# Altium footprint library PCB_proj_module_1_1.PcbLib: 60 footprints (part 4 of 4)
Each footprint in its own frame and in the unit in brackets; x right, y up, seen from the top. Pads: shape width x height; smd on the part's side, far side on the other; paste and mask are expansions set on the pad; w line width, h text height; cw(c..) or ccw(c..) is an arc to the next point about the centre after c.
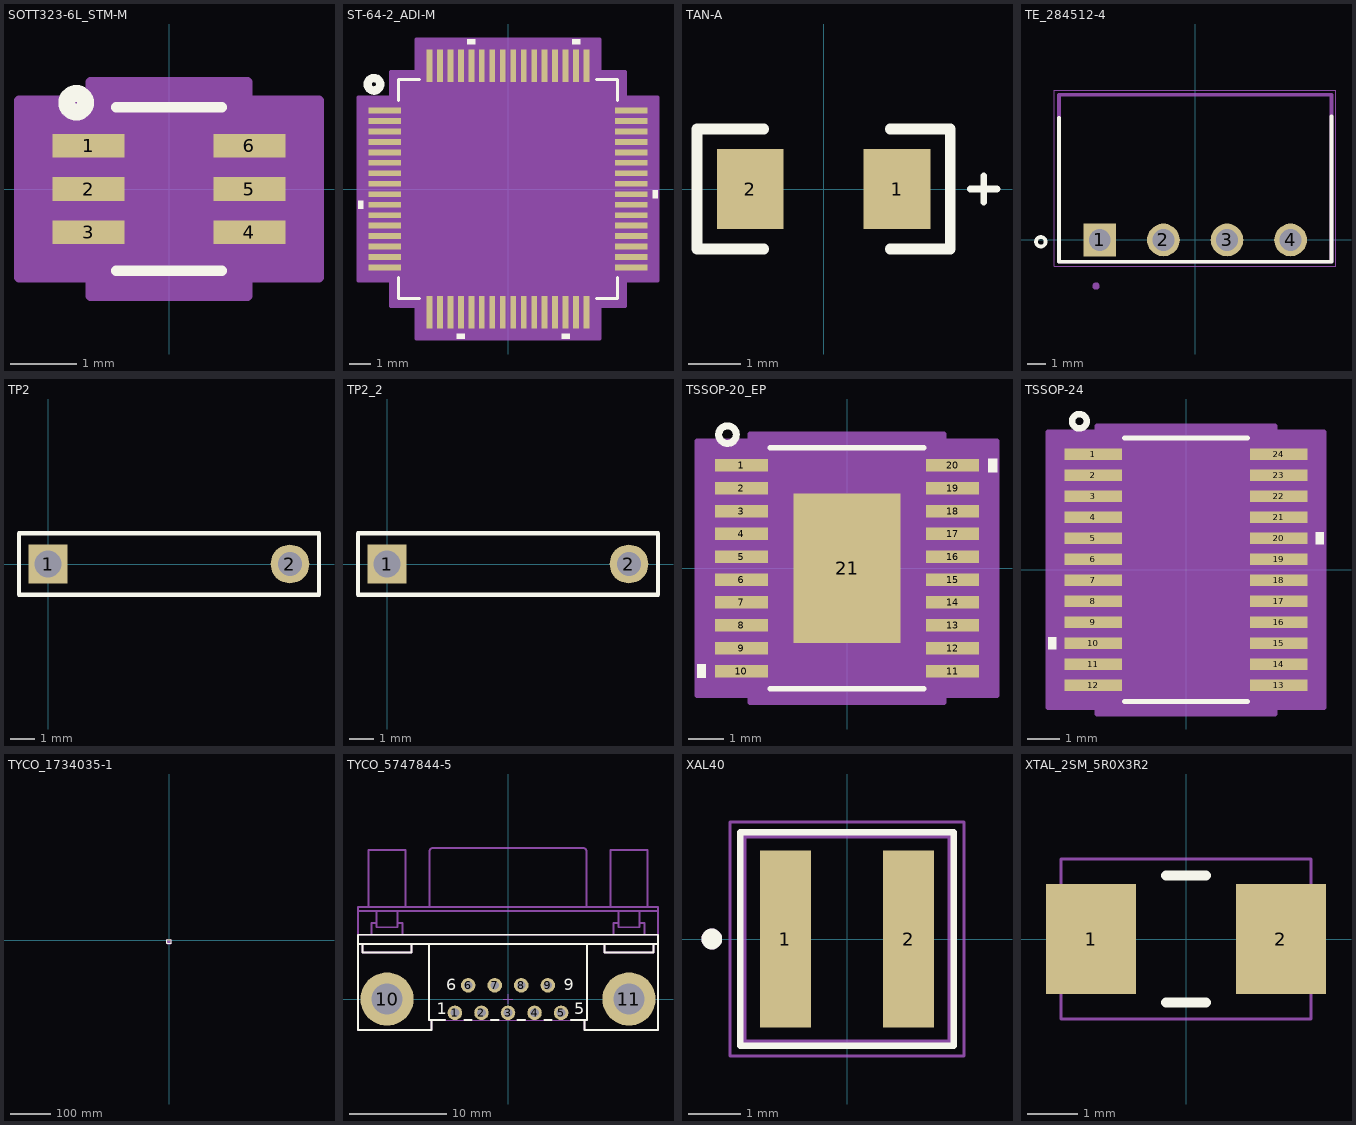
[diagram p3: the footprints below, top view; thin cyan lines are the x and y axes]

## SOTT323-6L_STM-M [mil]
height 39.37
pads (6):
  rect 42.5x14 smd paste+0 mask+0: 1(-47.75,25.59) 2(-47.75,0) 3(-47.75,-25.59) 4(47.75,-25.59) 5(47.75,0) 6(47.75,25.59)
Top Overlay:
  circle w10: c-55.12,51.18 r5.57
  lines w6: -31.5,-48.5 31.5,-48.5 ; -31.5,48.5 31.5,48.5
Mechanical 14:
  circle w7.87: c-40,45 r5
  lines w0: -12,43.5 ccw(c0,43.5) 12,43.5
  lines w1: -47,-31.59 -26.5,-31.59 -26.5,-19.59 -47,-19.59 -47,-31.59 ; -47,-6 -47,6 -26.5,6 -26.5,-6 -47,-6 ; -47,19.59 -26.5,19.59 -26.5,31.59 -47,31.59 -47,19.59 ; -26.5,-43.5 26.5,-43.5 26.5,43.5 -26.5,43.5 -26.5,-43.5 ; 26.5,-31.59 47,-31.59 47,-19.59 26.5,-19.59 26.5,-31.59 ; 26.5,-6 26.5,6 47,6 47,-6 26.5,-6 ; 26.5,19.59 47,19.59 47,31.59 26.5,31.59 26.5,19.59
Mechanical 15:
  region: -46.5,-52.59 -89,-52.59 -89,52.59 -46.5,52.59 -46.5,63.5 46.5,63.5 46.5,52.59 89,52.59 89,-52.59 46.5,-52.59 46.5,-63.5 -46.5,-63.5
  lines w6: -89,-52.59 -89,52.59 -46.5,52.59 -46.5,63.5 46.5,63.5 46.5,52.59 89,52.59 89,-52.59 46.5,-52.59 46.5,-63.5 -46.5,-63.5 -46.5,-52.59 -89,-52.59
3D body "SOTT323-6L_STM.step": height 43.11, standoff 0, extent -47,-43.5 47.01,43.51

## ST-64-2_ADI-M [mil]
height 39.37
pads (64):
  rect 61x11 smd paste+0 mask+0: 1(-231.5,147.64) 2(-231.5,127.95) 3(-231.5,108.27) 4(-231.5,88.58) 5(-231.5,68.9) 6(-231.5,49.21) 7(-231.5,29.53) 8(-231.5,9.84) 9(-231.5,-9.84) 10(-231.5,-29.53) 11(-231.5,-49.21) 12(-231.5,-68.9) 13(-231.5,-88.58) 14(-231.5,-108.27) 15(-231.5,-127.95) 16(-231.5,-147.64) 33(231.5,-147.64) 34(231.5,-127.95) 35(231.5,-108.27) 36(231.5,-88.58) 37(231.5,-68.9) 38(231.5,-49.21) 39(231.5,-29.53) 40(231.5,-9.84) 41(231.5,9.84) 42(231.5,29.53) 43(231.5,49.21) 44(231.5,68.9) 45(231.5,88.58) 46(231.5,108.27) 47(231.5,127.95) 48(231.5,147.64)
  rect 11x61 smd paste+0 mask+0: 17(-147.64,-231.5) 18(-127.95,-231.5) 19(-108.27,-231.5) 20(-88.58,-231.5) 21(-68.9,-231.5) 22(-49.21,-231.5) 23(-29.53,-231.5) 24(-9.84,-231.5) 25(9.84,-231.5) 26(29.53,-231.5) 27(49.21,-231.5) 28(68.9,-231.5) 29(88.58,-231.5) 30(108.27,-231.5) 31(127.95,-231.5) 32(147.64,-231.5) 49(147.64,231.5) 50(127.95,231.5) 51(108.27,231.5) 52(88.58,231.5) 53(68.9,231.5) 54(49.21,231.5) 55(29.53,231.5) 56(9.84,231.5) 57(-9.84,231.5) 58(-29.53,231.5) 59(-49.21,231.5) 60(-68.9,231.5) 61(-88.58,231.5) 62(-108.27,231.5) 63(-127.95,231.5) 64(-147.64,231.5)
Top Overlay:
  circle w15.75: c-251.97,196.85 r11.81
  region: -61.4,272 -76.4,272 -76.4,282 -61.4,282
  region: 135.45,272 120.45,272 120.45,282 135.45,282
  region: 272,-2.34 282,-2.34 282,-17.34 272,-17.34
  region: 115.77,-272 100.77,-272 100.77,-282 115.77,-282
  region: -81.08,-272 -96.08,-272 -96.08,-282 -81.08,-282
  region: -272,-22.03 -282,-22.03 -282,-37.03 -272,-37.03
  lines w6: -206,-166.24 -206,-206 -166.24,-206 ; -206,166.24 -206,206 -166.24,206 ; 166.24,-206 206,-206 206,-166.24 ; 166.24,206 206,206 206,166.24
Mechanical 14:
  drawing of 261 lines, arcs and shapes, not listed
  text "*" at -198.5,132.48 h50
Mechanical 15:
  region: -173.14,-221 -221,-221 -221,-173.14 -282,-173.14 -282,173.14 -221,173.14 -221,221 -173.14,221 -173.14,282 173.14,282 173.14,221 221,221 221,173.14 282,173.14 282,-173.14 221,-173.14 221,-221 173.14,-221 173.14,-282 -173.14,-282
  lines w6: -282,-173.14 -282,173.14 -221,173.14 -221,221 -173.14,221 -173.14,282 173.14,282 173.14,221 221,221 221,173.14 282,173.14 282,-173.14 221,-173.14 221,-221 173.14,-221 173.14,-282 -173.14,-282 -173.14,-221 -221,-221 -221,-173.14 -282,-173.14
3D body "ST-64-2_ADI.step": height 63.11, standoff 0, extent -240,-240 240,240

## TAN-A [mil] "TAN Capacitor"
height 39.37
pads (2):
  rect 50x60 smd: 1(55,0) 2(-55,0)
Top Overlay:
  lines w5: 110,0 130,0 ; 120,-10 120,10
  lines w8: -45,-45 -95,-45 -95,45 -45,45 ; 50,-45 95,-45 95,45 50,45
3D body: height 39.37, standoff 0, extent -47.24,-35.43 47.24,35.43

## TE_284512-4 [mm]
pads (4):
  rect 1.8x1.8 / inner round 1.8 / far side rect 1.8x1.8 hole 1.2: 1(-5.25,0)
  round 1.8 hole 1.2: 2(-1.75,0) 3(1.75,0) 4(5.25,0)
Top Overlay:
  circle w0.2: c-8.5,-0.1 r0.264
  lines w0.2: -7.5,6.731 -7.5,-1.2 7.5,-1.2 7.5,6.8
Mechanical 14:
  circle w0.2: c-5.461,-2.54 r0.1
  lines w0.2: -7.5,-1.2 7.5,-1.2 7.5,8 -7.5,8 -7.5,-1.2
Mechanical 15:
  lines w0.05: -7.75,-1.45 7.75,-1.45 7.75,8.25 -7.75,8.25 -7.75,-1.45
3D body "step_temp.STEP": height 7.25, standoff -3.4, extent -8,-1.2 8,8

## TP2 [mm]
height 9.2
pads (2):
  rect 1.6x1.6 hole 1.1: 1(0,0)
  round 1.6 hole 1: 2(10,0)
Top Overlay:
  lines w0.173: -1.2,-1.27 -1.2,1.27 11.2,1.27 11.2,-1.27 -1.2,-1.27

## TP2_2 [mm]
pads (2):
  rect 1.6x1.6 hole 1.1: 1(0,0)
  round 1.6 hole 1: 2(10,0)
Top Overlay:
  lines w0.173: -1.2,-1.27 -1.2,1.27 11.2,1.27 11.2,-1.27 -1.2,-1.27

## TSSOP-20_EP [mil]
pads (21):
  rect 59.5x14 smd paste+0 mask+0: 1(-118.25,115.16) 2(-118.25,89.57) 3(-118.25,63.98) 4(-118.25,38.39) 5(-118.25,12.8) 6(-118.25,-12.8) 7(-118.25,-38.39) 8(-118.25,-63.98) 9(-118.25,-89.57) 10(-118.25,-115.16) 11(118.25,-115.16) 12(118.25,-89.57) 13(118.25,-63.98) 14(118.25,-38.39) 15(118.25,-12.8) 16(118.25,12.8) 17(118.25,38.39) 18(118.25,63.98) 19(118.25,89.57) 20(118.25,115.16)
  rect 120x167 smd paste-83 mask+0: 21(0,0)
Top Overlay:
  circle w7.87: c-133.86,149.61 r9.84
  region: 158,122.66 168,122.66 168,107.66 158,107.66
  region: -158,-107.66 -168,-107.66 -168,-122.66 -158,-122.66
  lines w6: -85.92,-135 85.92,-135 ; -85.92,135 85.92,135
Top Paste:
  region: 56.06,-31.77 3.94,-31.77 3.94,-79.56 56.06,-79.56
  region: 56.06,23.9 3.94,23.9 3.94,-23.9 56.06,-23.9
  region: 56.06,79.56 3.94,79.56 3.94,31.77 56.06,31.77
  region: -3.94,-31.77 -56.06,-31.77 -56.06,-79.56 -3.94,-79.56
  region: -3.94,23.9 -56.06,23.9 -56.06,-23.9 -3.94,-23.9
  region: -3.94,79.56 -56.06,79.56 -56.06,31.77 -3.94,31.77
Mechanical 14:
  lines w0: -12,130 ccw(c0,130) 12,130
  lines w1: -126,-121.16 -88.5,-121.16 -88.5,-109.16 -126,-109.16 -126,-121.16 ; -126,-95.57 -88.5,-95.57 -88.5,-83.57 -126,-83.57 -126,-95.57 ; -126,-69.98 -88.5,-69.98 -88.5,-57.98 -126,-57.98 -126,-69.98 ; -126,-44.39 -88.5,-44.39 -88.5,-32.39 -126,-32.39 -126,-44.39 ; -126,-18.8 -88.5,-18.8 -88.5,-6.8 -126,-6.8 -126,-18.8 ; -126,6.8 -88.5,6.8 -88.5,18.8 -126,18.8 -126,6.8 ; -126,32.39 -88.5,32.39 -88.5,44.39 -126,44.39 -126,32.39 ; -126,57.98 -88.5,57.98 -88.5,69.98 -126,69.98 -126,57.98 ; -126,83.57 -88.5,83.57 -88.5,95.57 -126,95.57 -126,83.57 ; -126,109.16 -88.5,109.16 -88.5,121.16 -126,121.16 -126,109.16 ; -88.5,-130 -88.5,130 88.5,130 88.5,-130 -88.5,-130 ; 88.5,-121.16 126,-121.16 126,-109.16 88.5,-109.16 88.5,-121.16 ; 88.5,-95.57 126,-95.57 126,-83.57 88.5,-83.57 88.5,-95.57 ; 88.5,-69.98 126,-69.98 126,-57.98 88.5,-57.98 88.5,-69.98 ; 88.5,-44.39 126,-44.39 126,-32.39 88.5,-32.39 88.5,-44.39 ; 88.5,-18.8 126,-18.8 126,-6.8 88.5,-6.8 88.5,-18.8 ; 88.5,6.8 126,6.8 126,18.8 88.5,18.8 88.5,6.8 ; 88.5,32.39 126,32.39 126,44.39 88.5,44.39 88.5,32.39 ; 88.5,57.98 126,57.98 126,69.98 88.5,69.98 88.5,57.98 ; 88.5,83.57 126,83.57 126,95.57 88.5,95.57 88.5,83.57 ; 88.5,109.16 126,109.16 126,121.16 88.5,121.16 88.5,109.16
  text "*" at -86,77 h50
Mechanical 15:
  region: -108.5,-142.16 -168,-142.16 -168,142.16 -108.5,142.16 -108.5,150 108.5,150 108.5,142.16 168,142.16 168,-142.16 108.5,-142.16 108.5,-150 -108.5,-150
  lines w6: -168,-142.16 -108.5,-142.16 -108.5,-150 108.5,-150 108.5,-142.16 168,-142.16 168,142.16 108.5,142.16 108.5,150 -108.5,150 -108.5,142.16 -168,142.16 -168,-142.16
3D body "RE-20-1_ADI.step": height 47.09, standoff 0, extent -125.98,-130 125.99,130

## TSSOP-24 [mil]
pads (24):
  rect 70x14 smd paste+0 mask+0: 1(-113,140.75) 2(-113,115.16) 3(-113,89.57) 4(-113,63.98) 5(-113,38.39) 6(-113,12.8) 7(-113,-12.8) 8(-113,-38.39) 9(-113,-63.98) 10(-113,-89.57) 11(-113,-115.16) 12(-113,-140.75) 13(113,-140.75) 14(113,-115.16) 15(113,-89.57) 16(113,-63.98) 17(113,-38.39) 18(113,-12.8) 19(113,12.8) 20(113,38.39) 21(113,63.98) 22(113,89.57) 23(113,115.16) 24(113,140.75)
Top Overlay:
  circle w7.87: c-129.92,181.1 r8.8
  region: 158,45.89 168,45.89 168,30.89 158,30.89
  region: -158,-82.07 -168,-82.07 -168,-97.07 -158,-97.07
  lines w6: -75,-160.5 75,-160.5 ; -75,160.5 75,160.5
Mechanical 14:
  lines w0: -12,155.5 ccw(c0,155.5) 12,155.5
  lines w1: -126,-146.75 -88.5,-146.75 -88.5,-134.75 -126,-134.75 -126,-146.75 ; -126,-121.16 -88.5,-121.16 -88.5,-109.16 -126,-109.16 -126,-121.16 ; -126,-95.57 -88.5,-95.57 -88.5,-83.57 -126,-83.57 -126,-95.57 ; -126,-69.98 -88.5,-69.98 -88.5,-57.98 -126,-57.98 -126,-69.98 ; -126,-44.39 -88.5,-44.39 -88.5,-32.39 -126,-32.39 -126,-44.39 ; -126,-18.8 -88.5,-18.8 -88.5,-6.8 -126,-6.8 -126,-18.8 ; -126,6.8 -88.5,6.8 -88.5,18.8 -126,18.8 -126,6.8 ; -126,32.39 -88.5,32.39 -88.5,44.39 -126,44.39 -126,32.39 ; -126,57.98 -88.5,57.98 -88.5,69.98 -126,69.98 -126,57.98 ; -126,83.57 -88.5,83.57 -88.5,95.57 -126,95.57 -126,83.57 ; -126,109.16 -88.5,109.16 -88.5,121.16 -126,121.16 -126,109.16 ; -126,134.75 -88.5,134.75 -88.5,146.75 -126,146.75 -126,134.75 ; -88.5,-155.5 88.5,-155.5 88.5,155.5 -88.5,155.5 -88.5,-155.5 ; 88.5,-146.75 126,-146.75 126,-134.75 88.5,-134.75 88.5,-146.75 ; 88.5,-121.16 126,-121.16 126,-109.16 88.5,-109.16 88.5,-121.16 ; 88.5,-95.57 126,-95.57 126,-83.57 88.5,-83.57 88.5,-95.57 ; 88.5,-69.98 126,-69.98 126,-57.98 88.5,-57.98 88.5,-69.98 ; 88.5,-44.39 126,-44.39 126,-32.39 88.5,-32.39 88.5,-44.39 ; 88.5,-18.8 126,-18.8 126,-6.8 88.5,-6.8 88.5,-18.8 ; 88.5,6.8 126,6.8 126,18.8 88.5,18.8 88.5,6.8 ; 88.5,32.39 126,32.39 126,44.39 88.5,44.39 88.5,32.39 ; 88.5,57.98 126,57.98 126,69.98 88.5,69.98 88.5,57.98 ; 88.5,83.57 126,83.57 126,95.57 88.5,95.57 88.5,83.57 ; 88.5,109.16 126,109.16 126,121.16 88.5,121.16 88.5,109.16 ; 88.5,134.75 126,134.75 126,146.75 88.5,146.75 88.5,134.75
  text "*" at -86,102.5 h50
Mechanical 15:
  region: -108.5,-167.75 -168,-167.75 -168,167.75 -108.5,167.75 -108.5,175.5 108.5,175.5 108.5,167.75 168,167.75 168,-167.75 108.5,-167.75 108.5,-175.5 -108.5,-175.5
  lines w6: -168,-167.75 -108.5,-167.75 -108.5,-175.5 108.5,-175.5 108.5,-167.75 168,-167.75 168,167.75 108.5,167.75 108.5,175.5 -108.5,175.5 -108.5,167.75 -168,167.75 -168,-167.75
3D body "RU-24_ADI.step": height 47.09, standoff 0, extent -125.98,-155.51 125.99,155.51

## TYCO_1734035-1 [mm] "SMD, Right Angle, 5 Position, Type B, Mini USB Receptacle"
height 3.95
pads (11):
  rect 0.5x2.3 smd: 1(-1.575,0) 2(-0.8,0) 3(0,0) 4(0.8,0) 5(1.6,0)
  rect 2x2.5 smd: 6(-4.45,-5.6) 6(-4.45,-0.1) 6(4.45,-5.6) 6(4.45,-0.1)
  round 0.5 hole 0.9 unplated mask+0.2: MTG1(-2.2,-2.6) MTG2(2.2,-2.6)
Top Overlay:
  lines w0.2: -5.7,-7.1 -5.7,1.4 5.7,1.4 5.7,-7.1 -5.7,-7.1
Mechanical 8:
  circle w0.1: c-2.2,-2.6 r0.45
  circle w0.1: c2.2,-2.6 r0.45
  lines w0.1: -4.95,-5.6 -4.45,-5.6 ; -4.95,-0.1 -4.45,-0.1 ; -4.45,-7.85 0,-7.85 4.45,-7.85 ; -4.45,-6.1 -4.45,-5.6 ; -4.45,-5.1 -4.45,-5.6 ; -4.45,-0.6 -4.45,-0.1 ; -4.45,0.4 -4.45,-0.1 ; -3.95,-5.6 -4.45,-5.6 ; -3.95,-0.1 -4.45,-0.1 ; -2.7,-2.6 -2.2,-2.6 ; -2.2,-3.1 -2.2,-2.6 ; -2.2,-2.1 -2.2,-2.6 ; -2.1,0 -1.6,0 ; -1.7,-2.6 -2.2,-2.6 ; -1.6,-0.5 -1.6,0 ; -1.6,0.5 -1.6,0 ; -0.8,-0.5 -0.8,0 ; -0.8,0.5 -0.8,0 ; 0,-0.5 0,0 ; 0,0.5 0,0 ; 0.8,-0.5 0.8,0 ; 0.8,0.5 0.8,0 ; 1.6,-0.5 1.6,0 ; 1.6,0.5 1.6,0 ; 1.7,-2.6 2.2,-2.6 ; 2.1,0 1.6,0 ; 2.2,-3.1 2.2,-2.6 ; 2.2,-2.1 2.2,-2.6 ; 2.7,-2.6 2.2,-2.6 ; 3.95,-5.6 4.45,-5.6 ; 3.95,-0.1 4.45,-0.1 ; 4.45,-6.1 4.45,-5.6 ; 4.45,-5.1 4.45,-5.6 ; 4.45,-0.6 4.45,-0.1 ; 4.45,0.4 4.45,-0.1 ; 4.95,-5.6 4.45,-5.6 ; 4.95,-0.1 4.45,-0.1 ; -1.6,0 -0.8,0 ; -0.8,0 0,0 ; 0,0 0.8,0 ; 0.8,0 1.6,0 ; -5.45,-6.85 -5.45,-4.35 -3.45,-4.35 -3.45,-6.85 -5.45,-6.85 ; -5.45,-1.35 -5.45,1.15 -3.45,1.15 -3.45,-1.35 -5.45,-1.35 ; -1.85,-1.15 -1.35,-1.15 -1.35,1.15 -1.85,1.15 -1.85,-1.15 ; -1.05,-1.15 -0.55,-1.15 -0.55,1.15 -1.05,1.15 -1.05,-1.15 ; -0.25,-1.15 0.25,-1.15 0.25,1.15 -0.25,1.15 -0.25,-1.15 ; 0.55,-1.15 1.05,-1.15 1.05,1.15 0.55,1.15 0.55,-1.15 ; 1.35,-1.15 1.85,-1.15 1.85,1.15 1.35,1.15 1.35,-1.15 ; 3.45,-6.85 3.45,-4.35 5.45,-4.35 5.45,-6.85 3.45,-6.85 ; 3.45,-1.35 3.45,1.15 5.45,1.15 5.45,-1.35 3.45,-1.35
Mechanical 14:
  drawing of 5914 lines, arcs and shapes, not listed
3D body "TYCO_1734035-1.stp": height 4.14, standoff -0.95, extent -4.95,-8.5 4.95,0.7

## TYCO_5747844-5 [mm] "Right Angle 9 Female Contacts D-SUB Connector With PCB Mount Retention , Grounding Straps, and Fixed UNC 4-40 Female Screwlocks"
height 12.92
pads (11):
  round 1.5 hole 0.9: 1(-5.48,-1.422) 2(-2.74,-1.422) 3(0,-1.422) 4(2.74,-1.422) 5(5.48,-1.422) 6(-4.11,1.422) 7(-1.37,1.422) 8(1.37,1.422) 9(4.11,1.422)
  round 5.5 hole 3.2: 10(-12.495,0) 11(12.495,0)
Top Overlay:
  lines w0.2: -15.494,5.679 15.494,5.679 ; -15.494,6.6 -15.494,-3.185 -7.899,-3.185 -7.899,-2.169 ; -15.494,6.645 15.455,6.645 15.494,6.606 15.494,-3.185 7.899,-3.185 7.899,-2.169 ; -15.011,5.679 -15.011,4.79 -9.982,4.79 -9.982,5.679 ; -8.153,5.679 -8.153,-2.169 -6.482,-2.169 ; -4.478,-2.169 -3.742,-2.169 ; -1.738,-2.169 -1.002,-2.169 ; 1.002,-2.169 1.738,-2.169 ; 3.742,-2.169 4.478,-2.169 ; 6.482,-2.169 8.153,-2.169 8.153,5.679 ; 9.982,5.679 9.982,4.79 15.011,4.79 15.011,5.679
  text "9" at 5.75,0.925 h1.2
  text "1" at -7.35,-1.575 h1.2
  text "5" at 6.85,-1.575 h1.2
  text "6" at -6.375,0.925 h1.2
Mechanical 8:
  circle w0.1: c-12.495,0 r1.6
  circle w0.1: c12.495,0 r1.6
  circle w0.1: c-4.11,1.422 r0.5
  circle w0.1: c-5.48,-1.422 r0.5
  circle w0.1: c4.11,1.422 r0.5
  circle w0.1: c5.48,-1.422 r0.5
  lines w0.1: -12.995,0 -12.495,0 ; -12.495,-0.5 -12.495,0 ; -12.495,0.5 -12.495,0 ; -11.995,0 -12.495,0 ; -5.98,-1.422 -5.48,-1.422 ; -5.48,-1.922 -5.48,-1.422 ; -5.48,-0.922 -5.48,-1.422 ; -4.98,-1.422 -5.48,-1.422 ; -4.61,1.422 -4.11,1.422 ; -4.11,0.922 -4.11,1.422 ; -4.11,1.922 -4.11,1.422 ; -3.61,1.422 -4.11,1.422 ; -3.24,-1.422 -2.74,-1.422 ; -2.74,-1.922 -2.74,-1.422 ; -2.74,-0.922 -2.74,-1.422 ; -2.24,-1.422 -2.74,-1.422 ; -1.87,1.422 -1.37,1.422 ; -1.37,0.922 -1.37,1.422 ; -1.37,1.922 -1.37,1.422 ; -0.87,1.422 -1.37,1.422 ; -0.5,-1.422 0,-1.422 ; -0.5,0 0,0 ; 0,-1.922 0,-1.422 ; 0,-0.922 0,-1.422 ; 0,-0.5 0,0 ; 0,0.5 0,0 ; 0.5,-1.422 0,-1.422 ; 0.5,0 0,0 ; 0.87,1.422 1.37,1.422 ; 1.37,0.922 1.37,1.422 ; 1.37,1.922 1.37,1.422 ; 1.87,1.422 1.37,1.422 ; 2.24,-1.422 2.74,-1.422 ; 2.74,-1.922 2.74,-1.422 ; 2.74,-0.922 2.74,-1.422 ; 3.24,-1.422 2.74,-1.422 ; 3.61,1.422 4.11,1.422 ; 4.11,0.922 4.11,1.422 ; 4.11,1.922 4.11,1.422 ; 4.61,1.422 4.11,1.422 ; 4.98,-1.422 5.48,-1.422 ; 5.48,-1.922 5.48,-1.422 ; 5.48,-0.922 5.48,-1.422 ; 5.98,-1.422 5.48,-1.422 ; 11.995,0 12.495,0 ; 12.495,-0.5 12.495,0 ; 12.495,0.5 12.495,0 ; 12.995,0 12.495,0
Mechanical 14:
  circle w0.1: c-12.497,0 r1.854
  circle w0.1: c-12.497,0 r1.549
  circle w0.1: c12.497,0 r1.854
  circle w0.1: c12.497,0 r1.549
  lines w0.1: -15.494,5.679 15.494,5.679 ; -15.494,6.645 15.494,6.645 ; -15.494,9.108 15.494,9.108 ; -15.011,5.679 -15.011,4.79 -9.982,4.79 -9.982,5.679 ; -14.402,9.525 -14.402,15.408 -10.592,15.408 -10.592,9.525 ; -14.084,6.645 -14.084,7.838 -13.576,7.838 ; -13.576,9.108 -13.576,7.422 -11.417,7.422 -11.417,9.108 ; -11.417,7.838 -10.909,7.838 -10.909,6.645 ; -8.153,5.679 -8.153,-2.169 8.153,-2.169 8.153,5.679 ; -8.1,9.525 -8.1,15.296 cw(c-7.8,15.296) -7.8,15.596 7.8,15.596 cw(c7.8,15.296) 8.1,15.296 8.1,9.525 ; -7.899,-2.169 -7.899,-3.185 -15.494,-3.185 -15.494,9.525 15.494,9.525 15.494,-3.185 7.899,-3.185 7.899,-2.169 ; 9.982,5.679 9.982,4.79 15.011,4.79 15.011,5.679 ; 10.592,9.525 10.592,15.408 14.402,15.408 14.402,9.525 ; 10.909,6.645 10.909,7.838 11.417,7.838 ; 11.417,9.108 11.417,7.422 13.576,7.422 13.576,9.108 ; 13.576,7.838 14.084,7.838 14.084,6.645
  lines w0.2: -15.494,5.679 15.494,5.679 ; -15.494,6.645 15.494,6.645 ; -15.494,9.108 15.494,9.108 ; -15.011,5.679 -15.011,4.79 -9.982,4.79 -9.982,5.679 ; -14.402,9.525 -14.402,15.408 -10.592,15.408 -10.592,9.525 ; -14.084,6.645 -14.084,7.838 -13.576,7.838 ; -13.576,9.108 -13.576,7.422 -11.417,7.422 -11.417,9.108 ; -11.417,7.838 -10.909,7.838 -10.909,6.645 ; -8.153,5.679 -8.153,-2.169 -6.482,-2.169 ; -8.1,9.525 -8.1,15.296 cw(c-7.8,15.296) -7.8,15.596 7.8,15.596 cw(c7.8,15.296) 8.1,15.296 8.1,9.525 ; -7.899,-2.169 -7.899,-3.185 -15.494,-3.185 -15.494,9.525 15.494,9.525 15.494,-3.185 7.899,-3.185 7.899,-2.169 ; -4.478,-2.169 -3.742,-2.169 ; -1.738,-2.169 -1.002,-2.169 ; 1.002,-2.169 1.738,-2.169 ; 3.742,-2.169 4.478,-2.169 ; 6.482,-2.169 8.153,-2.169 8.153,5.679 ; 9.982,5.679 9.982,4.79 15.011,4.79 15.011,5.679 ; 10.592,9.525 10.592,15.408 14.402,15.408 14.402,9.525 ; 10.909,6.645 10.909,7.838 11.417,7.838 ; 11.417,9.108 11.417,7.422 13.576,7.422 13.576,9.108 ; 13.576,7.838 14.084,7.838 14.084,6.645
  text "9" at 5.75,0.925 h1.2
  text "6" at -6.375,0.925 h1.2
  text "5" at 6.85,-1.575 h1.2
  text "1" at -7.35,-1.575 h1.2
  text "9" at 5.75,0.925 h1.2
  text "1" at -7.35,-1.575 h1.2
  text "5" at 6.85,-1.575 h1.2
  text "6" at -6.375,0.925 h1.2
3D body "TYCO_5747844-5.stp": height 12.55, standoff -3.26, extent -15.494,-3.185 15.494,15.71

## XAL40 [mm]
height 2.1
pads (2):
  rect 0.98x3.4 smd: 1(-1.185,0) 2(1.185,0)
Top Overlay:
  circle w0.2: c-2.6,0 r0.1
  lines w0.127: -2.05,-2.05 -2.05,2.05 2.05,2.05 2.05,-2.05 -2.05,-2.05
Mechanical 14:
  circle w0.2: c-2.6,0 r0.1
  lines w0.127: -2,-2 2,-2 2,2 -2,2 -2,-2
Mechanical 15:
  lines w0.05: -2.25,-2.25 -2.25,2.25 2.25,2.25 2.25,-2.25 -2.25,-2.25
3D body "step_temp.STEP": height 4.1, standoff 0, extent -2,-2 2,2

## XTAL_2SM_5R0X3R2 [mm] "CRYSTAL 25M Hz  30F SMD 2 pads"
height 1.3
pads (2):
  rect 1.8x2.2 smd: 1(-1.9,0) 2(1.9,0)
Top Overlay:
  lines w0.203: -0.4,-1.27 0.4,-1.27 ; -0.4,1.27 0.4,1.27
Mechanical 14:
  lines w0.051: -2.5,-1.6 2.5,-1.6 2.5,1.6 -2.5,1.6 -2.5,-1.6
3D body: height 1.3, standoff 0, extent -2.5,-1.6 2.5,1.6